# EAGLE library part MCP9808 (library temperature_sensor)
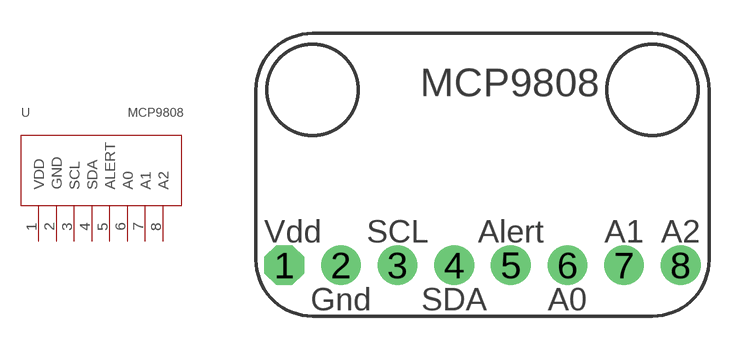
[diagram p0: symbol with the pads of MCP9808; footprint MCP9808]

Designator prefix -

## MCP9808  [MCP9808]
1  VDD
2  GND
3  SCL
4  SDA
5  ALERT
6  A0
7  A1
8  A2

## Footprint MCP9808 (pad centres in mm)
drill 1 pad 1.778 octagon: 1 -8.89,-4.064
drill 1 pad 1.778: 2 -6.35,-4.064; 3 -3.81,-4.064; 4 -1.27,-4.064; 5 1.27,-4.064; 6 3.81,-4.064; 7 6.35,-4.064; 8 8.89,-4.064